# EAGLE library part JQ_S8P (library user_conector)
jst JQコネクタ8pin ソケット 基板対基板コネクタ
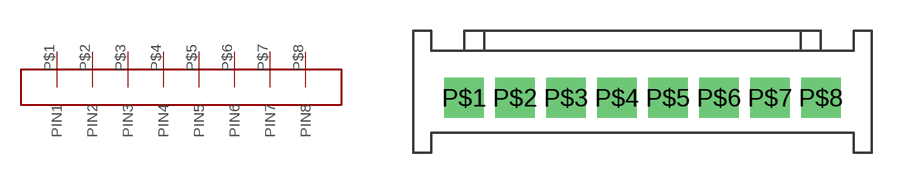
[diagram p8: symbol with the pads of JQ_S8P; footprint JQ_S8P]

Designator prefix CON

## JQ_S8P  [JQ_S8P]
P$1  PIN1
P$2  PIN2
P$3  PIN3
P$4  PIN4
P$5  PIN5
P$6  PIN6
P$7  PIN7
P$8  PIN8

## Footprint JQ_S8P (pad centres in mm)
drill 1.3 square: P$1 2.5,2.7; P$2 5,2.7; P$3 7.5,2.7; P$4 10,2.7; P$5 12.5,2.7; P$6 15,2.7; P$7 17.5,2.7; P$8 20,2.7